# Altium footprint library TE_3-794677-6_BOSCH_PINOUT.PcbLib: 1 footprints
Each footprint in its own frame and in the unit in brackets; x right, y up, seen from the top. Pads: shape width x height; smd on the part's side, far side on the other; paste and mask are expansions set on the pad; w line width, h text height; cw(c..) or ccw(c..) is an arc to the next point about the centre after c.
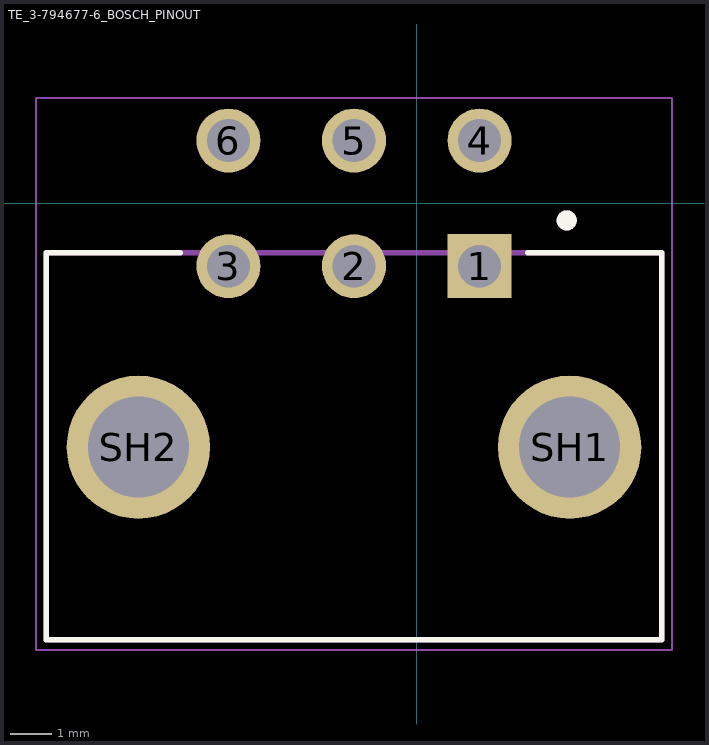
[diagram p0: the footprint, top view; thin cyan lines are the x and y axes]

## TE_3-794677-6_BOSCH_PINOUT [mm] "custom pinout for BOSCH"
pads (8):
  rect 1.53x1.53 hole 1.02: 1(1.5,-1.5)
  round 1.53 hole 1.02: 2(-1.5,-1.5) 3(-4.5,-1.5) 4(1.5,1.5) 5(-1.5,1.5) 6(-4.5,1.5)
  round 3.426 hole 2.41: SH1(3.65,-5.82) SH2(-6.65,-5.82)
Top Overlay:
  circle w0.24: c3.581,-0.406 r0.12
  lines w0.127: -5.65,-1.18 -8.85,-1.18 -8.85,-10.42 5.842,-10.42 ; 2.65,-1.18 5.85,-1.18 5.85,-10.42
Mechanical 13:
  circle w0.24: c3.581,-0.406 r0.12
  lines w0.127: 5.842,-10.42 -8.85,-10.42 -8.85,-1.18 5.842,-1.18 ; 5.85,-10.42 5.85,-1.18
Mechanical 15:
  lines w0.05: 6.096,-10.67 -9.1,-10.67 -9.1,2.52 6.096,2.52 ; 6.1,-10.67 6.1,2.52
3D body "c-3-794677-6-j-3d.stp": height 8.73, standoff -2.99, extent -8.001,-10.438 4.999,1.802